# Altium schematic symbol library LSF0108PWJ.SCHLIB: 1 symbol
Pins are listed as number, name and electrical type; pins without a type are passive.

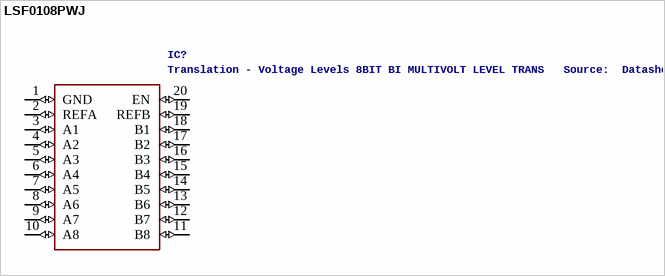
[diagram p0: symbol LSF0108PWJ]

## LSF0108PWJ
designator IC?, comment Translation - Voltage Levels 8BIT BI MULTIVOLT LEVEL TRANS   Source:  Datasheet
Manufacturer_Name: Nexperia; GateName_1: G$1; SymbolName_1: LSF0108PWJ; LibraryName: LSF0108PWJ; DeviceSetName: LSF0108PWJ; Manufacturer_Part_Number: LSF0108PWJ; Mouser_Part_Number: 771-LSF0108PWJ; Mouser_Price-Stock: https://www.mouser.co.uk/ProductDetail/Nexperia/LSF0108PWJ?qs=Cb2nCFKsA8qJ5XAtxtop3g%3D%3D; Description: Translation - Voltage Levels 8BIT BI MULTIVOLT LEVEL TRANS; Height: 1.25mm
footprint SOP65P640X125-20N
pins: 1 GND (io), 2 REFA (io), 3 A1 (io), 4 A2 (io), 5 A3 (io), 6 A4 (io), 7 A5 (io), 8 A6 (io), 9 A7 (io), 10 A8 (io), 11 B8 (io), 12 B7 (io), 13 B6 (io), 14 B5 (io), 15 B4 (io), 16 B3 (io), 17 B2 (io), 18 B1 (io), 19 REFB (io), 20 EN (io)